# EAGLE library part 6SLX75CSG484 (library project)
Xilinx FPGA: 6SLX75CSG484
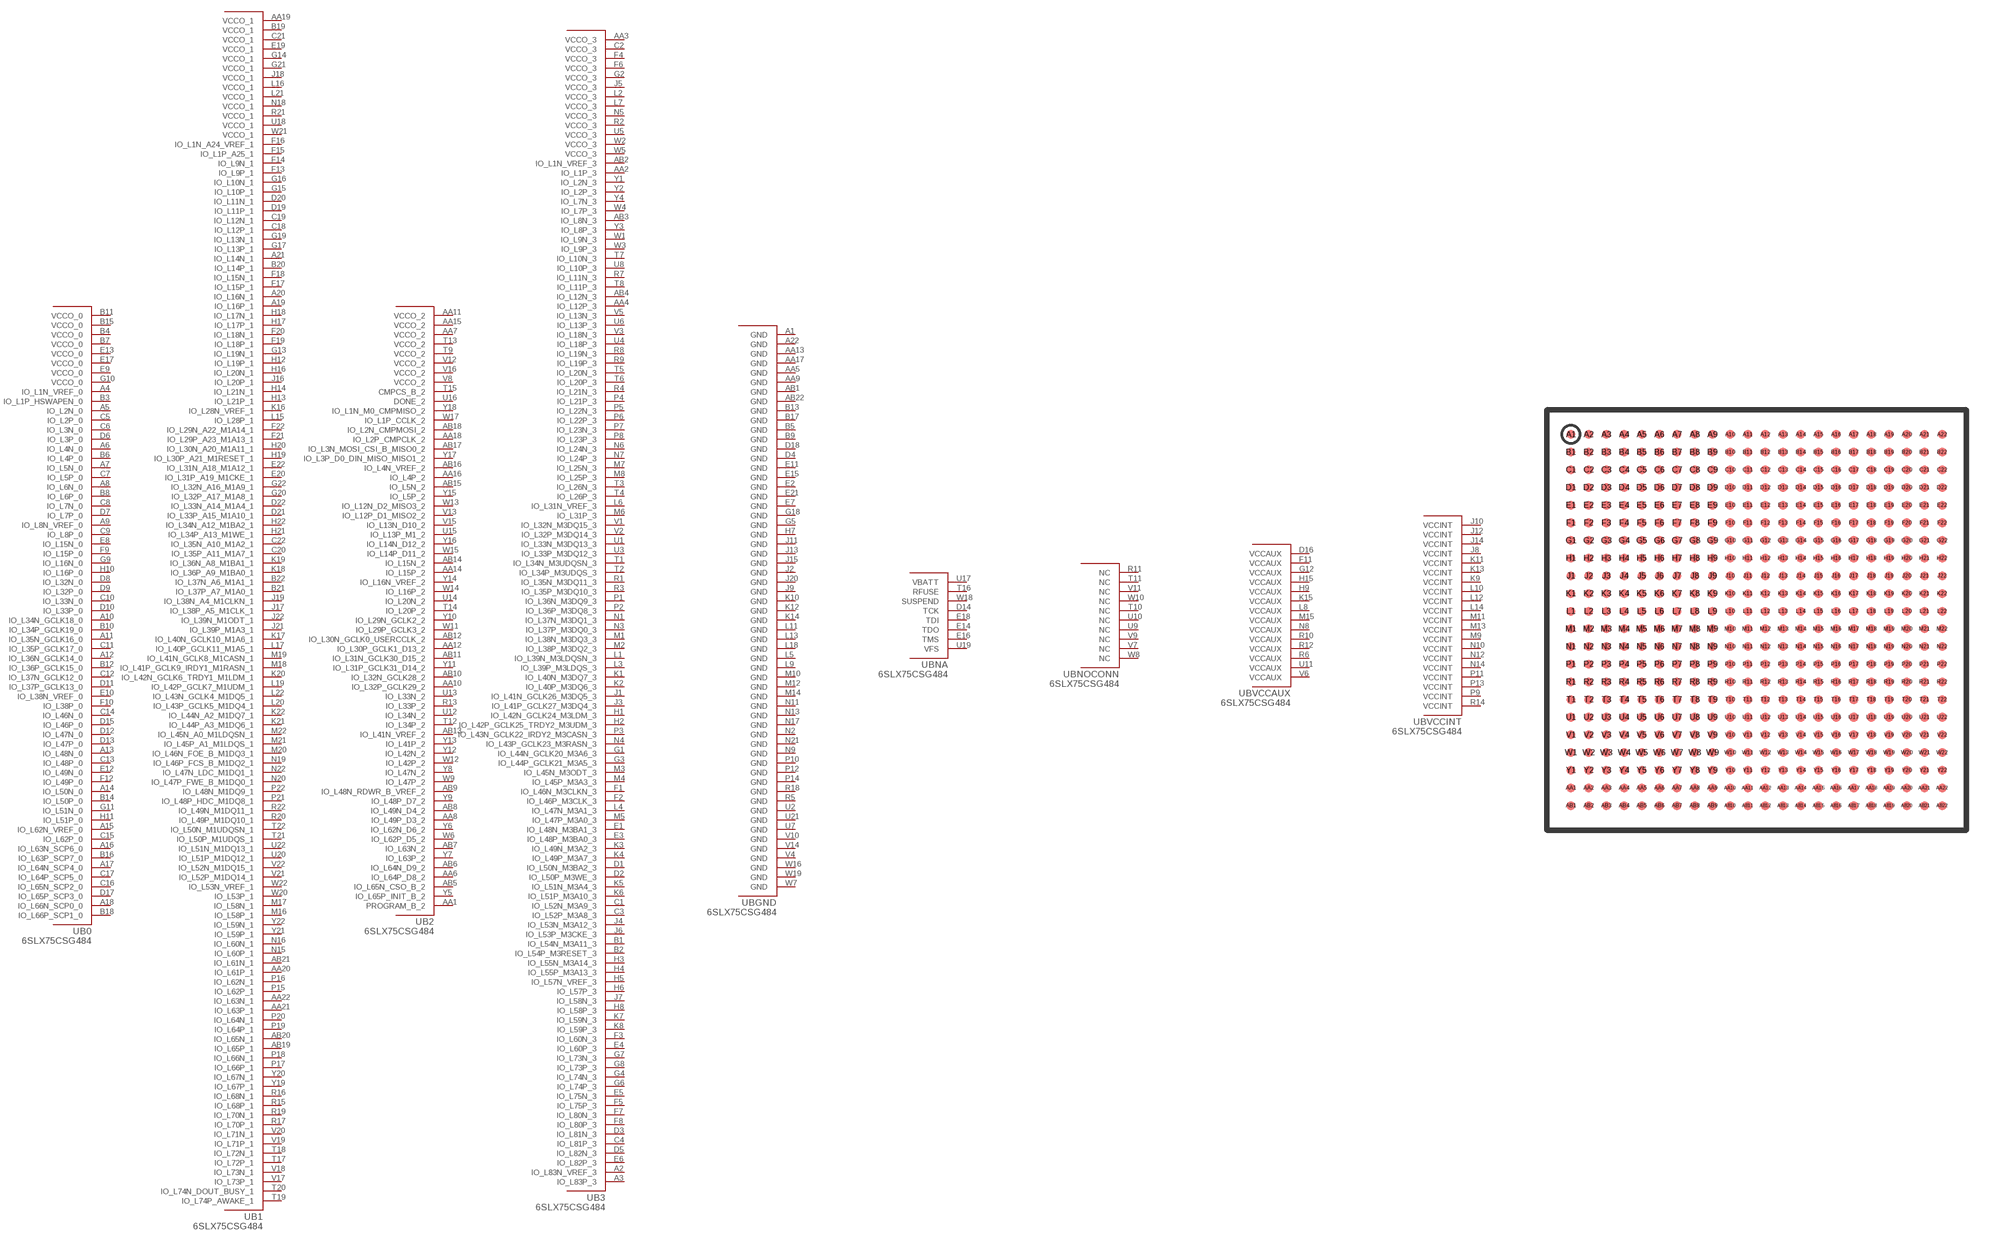
[diagram p7: symbol with the pads of CS484; footprint CS484]

Designator prefix U; gates B0=6SLX75CSG484_0 B1=6SLX75CSG484_1 B2=6SLX75CSG484_2 B3=6SLX75CSG484_3 BGND=6SLX75CSG484_GND BNA=6SLX75CSG484_NA BNOCONN=6SLX75CSG484_NOCONN BVCCAUX=6SLX75CSG484_VCCAUX BVCCINT=6SLX75CSG484_VCCINT

## 6SLX75CSG484  [CS484]
A1  BGND:GND  pwr
A2  B3:IO_L83N_VREF_3
A3  B3:IO_L83P_3
A4  B0:IO_L1N_VREF_0
A5  B0:IO_L2N_0
A6  B0:IO_L4N_0
A7  B0:IO_L5N_0
A8  B0:IO_L6N_0
A9  B0:IO_L8N_VREF_0
A10  B0:IO_L34N_GCLK18_0
A11  B0:IO_L35N_GCLK16_0
A12  B0:IO_L36N_GCLK14_0
A13  B0:IO_L48N_0
A14  B0:IO_L50N_0
A15  B0:IO_L62N_VREF_0
A16  B0:IO_L63N_SCP6_0
A17  B0:IO_L64N_SCP4_0
A18  B0:IO_L66N_SCP0_0
A19  B1:IO_L16P_1
A20  B1:IO_L16N_1
A21  B1:IO_L14N_1
A22  BGND:GND  pwr
AA1  B2:PROGRAM_B_2  in
AA2  B3:IO_L1P_3
AA3  B3:VCCO_3  in
AA4  B3:IO_L12P_3
AA5  BGND:GND  pwr
AA6  B2:IO_L64P_D8_2
AA7  B2:VCCO_2  in
AA8  B2:IO_L49P_D3_2
AA9  BGND:GND  pwr
AA10  B2:IO_L32P_GCLK29_2
AA11  B2:VCCO_2  in
AA12  B2:IO_L30P_GCLK1_D13_2
AA13  BGND:GND  pwr
AA14  B2:IO_L15P_2
AA15  B2:VCCO_2  in
AA16  B2:IO_L4P_2
AA17  BGND:GND  pwr
AA18  B2:IO_L2P_CMPCLK_2
AA19  B1:VCCO_1  in
AA20  B1:IO_L61P_1
AA21  B1:IO_L63P_1
AA22  B1:IO_L63N_1
AB1  BGND:GND  pwr
AB2  B3:IO_L1N_VREF_3
AB3  B3:IO_L8N_3
AB4  B3:IO_L12N_3
AB5  B2:IO_L65N_CSO_B_2
AB6  B2:IO_L64N_D9_2
AB7  B2:IO_L63N_2
AB8  B2:IO_L49N_D4_2
AB9  B2:IO_L48N_RDWR_B_VREF_2
AB10  B2:IO_L32N_GCLK28_2
AB11  B2:IO_L31N_GCLK30_D15_2
AB12  B2:IO_L30N_GCLK0_USERCCLK_2
AB13  B2:IO_L41N_VREF_2
AB14  B2:IO_L15N_2
AB15  B2:IO_L5N_2
AB16  B2:IO_L4N_VREF_2
AB17  B2:IO_L3N_MOSI_CSI_B_MISO0_2
AB18  B2:IO_L2N_CMPMOSI_2
AB19  B1:IO_L65P_1
AB20  B1:IO_L65N_1
AB21  B1:IO_L61N_1
AB22  BGND:GND  pwr
B1  B3:IO_L54N_M3A11_3
B2  B3:IO_L54P_M3RESET_3
B3  B0:IO_L1P_HSWAPEN_0
B4  B0:VCCO_0  in
B5  BGND:GND  pwr
B6  B0:IO_L4P_0
B7  B0:VCCO_0  in
B8  B0:IO_L6P_0
B9  BGND:GND  pwr
B10  B0:IO_L34P_GCLK19_0
B11  B0:VCCO_0  in
B12  B0:IO_L36P_GCLK15_0
B13  BGND:GND  pwr
B14  B0:IO_L50P_0
B15  B0:VCCO_0  in
B16  B0:IO_L63P_SCP7_0
B17  BGND:GND  pwr
B18  B0:IO_L66P_SCP1_0
B19  B1:VCCO_1  in
B20  B1:IO_L14P_1
B21  B1:IO_L37P_A7_M1A0_1
B22  B1:IO_L37N_A6_M1A1_1
C1  B3:IO_L52N_M3A9_3
C2  B3:VCCO_3  in
C3  B3:IO_L52P_M3A8_3
C4  B3:IO_L81P_3
C5  B0:IO_L2P_0
C6  B0:IO_L3N_0
C7  B0:IO_L5P_0
C8  B0:IO_L7N_0
C9  B0:IO_L8P_0
C10  B0:IO_L33N_0
C11  B0:IO_L35P_GCLK17_0
C12  B0:IO_L37N_GCLK12_0
C13  B0:IO_L48P_0
C14  B0:IO_L46N_0
C15  B0:IO_L62P_0
C16  B0:IO_L65N_SCP2_0
C17  B0:IO_L64P_SCP5_0
C18  B1:IO_L12P_1
C19  B1:IO_L12N_1
C20  B1:IO_L35P_A11_M1A7_1
C21  B1:VCCO_1  in
C22  B1:IO_L35N_A10_M1A2_1
D1  B3:IO_L50N_M3BA2_3
D2  B3:IO_L50P_M3WE_3
D3  B3:IO_L81N_3
D4  BGND:GND  pwr
D5  B3:IO_L82N_3
D6  B0:IO_L3P_0
D7  B0:IO_L7P_0
D8  B0:IO_L32N_0
D9  B0:IO_L32P_0
D10  B0:IO_L33P_0
D11  B0:IO_L37P_GCLK13_0
D12  B0:IO_L47N_0
D13  B0:IO_L47P_0
D14  BNA:TCK  in
D15  B0:IO_L46P_0
D16  BVCCAUX:VCCAUX  in
D17  B0:IO_L65P_SCP3_0
D18  BGND:GND  pwr
D19  B1:IO_L11P_1
D20  B1:IO_L11N_1
D21  B1:IO_L33P_A15_M1A10_1
D22  B1:IO_L33N_A14_M1A4_1
E1  B3:IO_L48N_M3BA1_3
E2  BGND:GND  pwr
E3  B3:IO_L48P_M3BA0_3
E4  B3:IO_L60P_3
E5  B3:IO_L75N_3
E6  B3:IO_L82P_3
E7  BGND:GND  pwr
E8  B0:IO_L15N_0
E9  B0:VCCO_0  in
E10  B0:IO_L38N_VREF_0
E11  BGND:GND  pwr
E12  B0:IO_L49N_0
E13  B0:VCCO_0  in
E14  BNA:TDO  out
E15  BGND:GND  pwr
E16  BNA:TMS  in
E17  B0:VCCO_0  in
E18  BNA:TDI  in
E19  B1:VCCO_1  in
E20  B1:IO_L31P_A19_M1CKE_1
E21  BGND:GND  pwr
E22  B1:IO_L31N_A18_M1A12_1
F1  B3:IO_L46N_M3CLKN_3
F2  B3:IO_L46P_M3CLK_3
F3  B3:IO_L60N_3
F4  B3:VCCO_3  in
F5  B3:IO_L75P_3
F6  B3:VCCO_3  in
F7  B3:IO_L80N_3
F8  B3:IO_L80P_3
F9  B0:IO_L15P_0
F10  B0:IO_L38P_0
F11  BVCCAUX:VCCAUX  in
F12  B0:IO_L49P_0
F13  B1:IO_L9P_1
F14  B1:IO_L9N_1
F15  B1:IO_L1P_A25_1
F16  B1:IO_L1N_A24_VREF_1
F17  B1:IO_L15P_1
F18  B1:IO_L15N_1
F19  B1:IO_L18P_1
F20  B1:IO_L18N_1
F21  B1:IO_L29P_A23_M1A13_1
F22  B1:IO_L29N_A22_M1A14_1
G1  B3:IO_L44N_GCLK20_M3A6_3
G2  B3:VCCO_3  in
G3  B3:IO_L44P_GCLK21_M3A5_3
G4  B3:IO_L74N_3
G5  BGND:GND  pwr
G6  B3:IO_L74P_3
G7  B3:IO_L73N_3
G8  B3:IO_L73P_3
G9  B0:IO_L16N_0
G10  B0:VCCO_0  in
G11  B0:IO_L51N_0
G12  BVCCAUX:VCCAUX  in
G13  B1:IO_L19N_1
G14  B1:VCCO_1  in
G15  B1:IO_L10P_1
G16  B1:IO_L10N_1
G17  B1:IO_L13P_1
G18  BGND:GND  pwr
G19  B1:IO_L13N_1
G20  B1:IO_L32P_A17_M1A8_1
G21  B1:VCCO_1  in
G22  B1:IO_L32N_A16_M1A9_1
H1  B3:IO_L42N_GCLK24_M3LDM_3
H2  B3:IO_L42P_GCLK25_TRDY2_M3UDM_3
H3  B3:IO_L55N_M3A14_3
H4  B3:IO_L55P_M3A13_3
H5  B3:IO_L57N_VREF_3
H6  B3:IO_L57P_3
H7  BGND:GND  pwr
H8  B3:IO_L58P_3
H9  BVCCAUX:VCCAUX  in
H10  B0:IO_L16P_0
H11  B0:IO_L51P_0
H12  B1:IO_L19P_1
H13  B1:IO_L21P_1
H14  B1:IO_L21N_1
H15  BVCCAUX:VCCAUX  in
H16  B1:IO_L20N_1
H17  B1:IO_L17P_1
H18  B1:IO_L17N_1
H19  B1:IO_L30P_A21_M1RESET_1
H20  B1:IO_L30N_A20_M1A11_1
H21  B1:IO_L34P_A13_M1WE_1
H22  B1:IO_L34N_A12_M1BA2_1
J1  B3:IO_L41N_GCLK26_M3DQ5_3
J2  BGND:GND  pwr
J3  B3:IO_L41P_GCLK27_M3DQ4_3
J4  B3:IO_L53N_M3A12_3
J5  B3:VCCO_3  in
J6  B3:IO_L53P_M3CKE_3
J7  B3:IO_L58N_3
J8  BVCCINT:VCCINT  in
J9  BGND:GND  pwr
J10  BVCCINT:VCCINT  in
J11  BGND:GND  pwr
J12  BVCCINT:VCCINT  in
J13  BGND:GND  pwr
J14  BVCCINT:VCCINT  in
J15  BGND:GND  pwr
J16  B1:IO_L20P_1
J17  B1:IO_L38P_A5_M1CLK_1
J18  B1:VCCO_1  in
J19  B1:IO_L38N_A4_M1CLKN_1
J20  BGND:GND  pwr
J21  B1:IO_L39P_M1A3_1
J22  B1:IO_L39N_M1ODT_1
K1  B3:IO_L40N_M3DQ7_3
K2  B3:IO_L40P_M3DQ6_3
K3  B3:IO_L49N_M3A2_3
K4  B3:IO_L49P_M3A7_3
K5  B3:IO_L51N_M3A4_3
K6  B3:IO_L51P_M3A10_3
K7  B3:IO_L59N_3
K8  B3:IO_L59P_3
K9  BVCCINT:VCCINT  in
K10  BGND:GND  pwr
K11  BVCCINT:VCCINT  in
K12  BGND:GND  pwr
K13  BVCCINT:VCCINT  in
K14  BGND:GND  pwr
K15  BVCCAUX:VCCAUX  in
K16  B1:IO_L28N_VREF_1
K17  B1:IO_L40N_GCLK10_M1A6_1
K18  B1:IO_L36P_A9_M1BA0_1
K19  B1:IO_L36N_A8_M1BA1_1
K20  B1:IO_L42N_GCLK6_TRDY1_M1LDM_1
K21  B1:IO_L44P_A3_M1DQ6_1
K22  B1:IO_L44N_A2_M1DQ7_1
L1  B3:IO_L39N_M3LDQSN_3
L2  B3:VCCO_3  in
L3  B3:IO_L39P_M3LDQS_3
L4  B3:IO_L47N_M3A1_3
L5  BGND:GND  pwr
L6  B3:IO_L31N_VREF_3
L7  B3:VCCO_3  in
L8  BVCCAUX:VCCAUX  in
L9  BGND:GND  pwr
L10  BVCCINT:VCCINT  in
L11  BGND:GND  pwr
L12  BVCCINT:VCCINT  in
L13  BGND:GND  pwr
L14  BVCCINT:VCCINT  in
L15  B1:IO_L28P_1
L16  B1:VCCO_1  in
L17  B1:IO_L40P_GCLK11_M1A5_1
L18  BGND:GND  pwr
L19  B1:IO_L42P_GCLK7_M1UDM_1
L20  B1:IO_L43P_GCLK5_M1DQ4_1
L21  B1:VCCO_1  in
L22  B1:IO_L43N_GCLK4_M1DQ5_1
M1  B3:IO_L38N_M3DQ3_3
M2  B3:IO_L38P_M3DQ2_3
M3  B3:IO_L45N_M3ODT_3
M4  B3:IO_L45P_M3A3_3
M5  B3:IO_L47P_M3A0_3
M6  B3:IO_L31P_3
M7  B3:IO_L25N_3
M8  B3:IO_L25P_3
M9  BVCCINT:VCCINT  in
M10  BGND:GND  pwr
M11  BVCCINT:VCCINT  in
M12  BGND:GND  pwr
M13  BVCCINT:VCCINT  in
M14  BGND:GND  pwr
M15  BVCCAUX:VCCAUX  in
M16  B1:IO_L58P_1
M17  B1:IO_L58N_1
M18  B1:IO_L41P_GCLK9_IRDY1_M1RASN_1
M19  B1:IO_L41N_GCLK8_M1CASN_1
M20  B1:IO_L46N_FOE_B_M1DQ3_1
M21  B1:IO_L45P_A1_M1LDQS_1
M22  B1:IO_L45N_A0_M1LDQSN_1
N1  B3:IO_L37N_M3DQ1_3
N2  BGND:GND  pwr
N3  B3:IO_L37P_M3DQ0_3
N4  B3:IO_L43P_GCLK23_M3RASN_3
N5  B3:VCCO_3  in
N6  B3:IO_L24N_3
N7  B3:IO_L24P_3
N8  BVCCAUX:VCCAUX  in
N9  BGND:GND  pwr
N10  BVCCINT:VCCINT  in
N11  BGND:GND  pwr
N12  BVCCINT:VCCINT  in
N13  BGND:GND  pwr
N14  BVCCINT:VCCINT  in
N15  B1:IO_L60P_1
N16  B1:IO_L60N_1
N17  BGND:GND  pwr
N18  B1:VCCO_1  in
N19  B1:IO_L46P_FCS_B_M1DQ2_1
N20  B1:IO_L47P_FWE_B_M1DQ0_1
N21  BGND:GND  pwr
N22  B1:IO_L47N_LDC_M1DQ1_1
P1  B3:IO_L36N_M3DQ9_3
P2  B3:IO_L36P_M3DQ8_3
P3  B3:IO_L43N_GCLK22_IRDY2_M3CASN_3
P4  B3:IO_L21P_3
P5  B3:IO_L22N_3
P6  B3:IO_L22P_3
P7  B3:IO_L23N_3
P8  B3:IO_L23P_3
P9  BVCCINT:VCCINT  in
P10  BGND:GND  pwr
P11  BVCCINT:VCCINT  in
P12  BGND:GND  pwr
P13  BVCCINT:VCCINT  in
P14  BGND:GND  pwr
P15  B1:IO_L62P_1
P16  B1:IO_L62N_1
P17  B1:IO_L66P_1
P18  B1:IO_L66N_1
P19  B1:IO_L64P_1
P20  B1:IO_L64N_1
P21  B1:IO_L48P_HDC_M1DQ8_1
P22  B1:IO_L48N_M1DQ9_1
R1  B3:IO_L35N_M3DQ11_3
R2  B3:VCCO_3  in
R3  B3:IO_L35P_M3DQ10_3
R4  B3:IO_L21N_3
R5  BGND:GND  pwr
R6  BVCCAUX:VCCAUX  in
R7  B3:IO_L11N_3
R8  B3:IO_L19N_3
R9  B3:IO_L19P_3
R10  BVCCAUX:VCCAUX  in
R11  BNOCONN:NC  pas
R12  BVCCAUX:VCCAUX  in
R13  B2:IO_L33P_2
R14  BVCCINT:VCCINT  in
R15  B1:IO_L68P_1
R16  B1:IO_L68N_1
R17  B1:IO_L70P_1
R18  BGND:GND  pwr
R19  B1:IO_L70N_1
R20  B1:IO_L49P_M1DQ10_1
R21  B1:VCCO_1  in
R22  B1:IO_L49N_M1DQ11_1
T1  B3:IO_L34N_M3UDQSN_3
T2  B3:IO_L34P_M3UDQS_3
T3  B3:IO_L26N_3
T4  B3:IO_L26P_3
T5  B3:IO_L20N_3
T6  B3:IO_L20P_3
T7  B3:IO_L10N_3
T8  B3:IO_L11P_3
T9  B2:VCCO_2  in
T10  BNOCONN:NC  pas
T11  BNOCONN:NC  pas
T12  B2:IO_L34P_2
T13  B2:VCCO_2  in
T14  B2:IO_L20P_2
T15  B2:CMPCS_B_2
T16  BNA:RFUSE
T17  B1:IO_L72P_1
T18  B1:IO_L72N_1
T19  B1:IO_L74P_AWAKE_1
T20  B1:IO_L74N_DOUT_BUSY_1
T21  B1:IO_L50P_M1UDQS_1
T22  B1:IO_L50N_M1UDQSN_1
U1  B3:IO_L33N_M3DQ13_3
U2  BGND:GND  pwr
U3  B3:IO_L33P_M3DQ12_3
U4  B3:IO_L18P_3
U5  B3:VCCO_3  in
U6  B3:IO_L13P_3
U7  BGND:GND  pwr
U8  B3:IO_L10P_3
U9  BNOCONN:NC  pas
U10  BNOCONN:NC  pas
U11  BVCCAUX:VCCAUX  in
U12  B2:IO_L34N_2
U13  B2:IO_L33N_2
U14  B2:IO_L20N_2
U15  B2:IO_L13P_M1_2
U16  B2:DONE_2
U17  BNA:VBATT  in
U18  B1:VCCO_1  in
U19  BNA:VFS
U20  B1:IO_L51P_M1DQ12_1
U21  BGND:GND  pwr
U22  B1:IO_L51N_M1DQ13_1
V1  B3:IO_L32N_M3DQ15_3
V2  B3:IO_L32P_M3DQ14_3
V3  B3:IO_L18N_3
V4  BGND:GND  pwr
V5  B3:IO_L13N_3
V6  BVCCAUX:VCCAUX  in
V7  BNOCONN:NC  pas
V8  B2:VCCO_2  in
V9  BNOCONN:NC  pas
V10  BGND:GND  pwr
V11  BNOCONN:NC  pas
V12  B2:VCCO_2  in
V13  B2:IO_L12P_D1_MISO2_2
V14  BGND:GND  pwr
V15  B2:IO_L13N_D10_2
V16  B2:VCCO_2  in
V17  B1:IO_L73P_1
V18  B1:IO_L73N_1
V19  B1:IO_L71P_1
V20  B1:IO_L71N_1
V21  B1:IO_L52P_M1DQ14_1
V22  B1:IO_L52N_M1DQ15_1
W1  B3:IO_L9N_3
W2  B3:VCCO_3  in
W3  B3:IO_L9P_3
W4  B3:IO_L7P_3
W5  B3:VCCO_3  in
W6  B2:IO_L62P_D5_2
W7  BGND:GND  pwr
W8  BNOCONN:NC  pas
W9  B2:IO_L47P_2
W10  BNOCONN:NC  pas
W11  B2:IO_L29P_GCLK3_2
W12  B2:IO_L42P_2
W13  B2:IO_L12N_D2_MISO3_2
W14  B2:IO_L16P_2
W15  B2:IO_L14P_D11_2
W16  BGND:GND  pwr
W17  B2:IO_L1P_CCLK_2
W18  BNA:SUSPEND  in
W19  BGND:GND  pwr
W20  B1:IO_L53P_1
W21  B1:VCCO_1  in
W22  B1:IO_L53N_VREF_1
Y1  B3:IO_L2N_3
Y2  B3:IO_L2P_3
Y3  B3:IO_L8P_3
Y4  B3:IO_L7N_3
Y5  B2:IO_L65P_INIT_B_2
Y6  B2:IO_L62N_D6_2
Y7  B2:IO_L63P_2
Y8  B2:IO_L47N_2
Y9  B2:IO_L48P_D7_2
Y10  B2:IO_L29N_GCLK2_2
Y11  B2:IO_L31P_GCLK31_D14_2
Y12  B2:IO_L42N_2
Y13  B2:IO_L41P_2
Y14  B2:IO_L16N_VREF_2
Y15  B2:IO_L5P_2
Y16  B2:IO_L14N_D12_2
Y17  B2:IO_L3P_D0_DIN_MISO_MISO1_2
Y18  B2:IO_L1N_M0_CMPMISO_2
Y19  B1:IO_L67P_1
Y20  B1:IO_L67N_1
Y21  B1:IO_L59P_1
Y22  B1:IO_L59N_1

## Footprint CS484 (pad centres in mm)
CS484 CSG484
smd 0.4 x 0.4: A1 -8.4,8.4; A2 -7.6,8.4; A3 -6.8,8.4; A4 -6,8.4; A5 -5.2,8.4; A6 -4.4,8.4; A7 -3.6,8.4; A8 -2.8,8.4; A9 -2,8.4; A10 -1.2,8.4; A11 -0.4,8.4; A12 0.4,8.4; A13 1.2,8.4; A14 2,8.4; A15 2.8,8.4; A16 3.6,8.4; A17 4.4,8.4; A18 5.2,8.4; A19 6,8.4; A20 6.8,8.4; A21 7.6,8.4; A22 8.4,8.4; AA1 -8.4,-7.6; AA2 -7.6,-7.6; AA3 -6.8,-7.6; AA4 -6,-7.6; AA5 -5.2,-7.6; AA6 -4.4,-7.6; AA7 -3.6,-7.6; AA8 -2.8,-7.6; AA9 -2,-7.6; AA10 -1.2,-7.6; AA11 -0.4,-7.6; AA12 0.4,-7.6; AA13 1.2,-7.6; AA14 2,-7.6; AA15 2.8,-7.6; AA16 3.6,-7.6; AA17 4.4,-7.6; AA18 5.2,-7.6; AA19 6,-7.6; AA20 6.8,-7.6; AA21 7.6,-7.6; AA22 8.4,-7.6; AB1 -8.4,-8.4; AB2 -7.6,-8.4; AB3 -6.8,-8.4; AB4 -6,-8.4; AB5 -5.2,-8.4; AB6 -4.4,-8.4; AB7 -3.6,-8.4; AB8 -2.8,-8.4; AB9 -2,-8.4; AB10 -1.2,-8.4; AB11 -0.4,-8.4; AB12 0.4,-8.4; AB13 1.2,-8.4; AB14 2,-8.4; AB15 2.8,-8.4; AB16 3.6,-8.4; AB17 4.4,-8.4; AB18 5.2,-8.4; AB19 6,-8.4; AB20 6.8,-8.4; AB21 7.6,-8.4; AB22 8.4,-8.4; B1 -8.4,7.6; B2 -7.6,7.6; B3 -6.8,7.6; B4 -6,7.6; B5 -5.2,7.6; B6 -4.4,7.6; B7 -3.6,7.6; B8 -2.8,7.6; B9 -2,7.6; B10 -1.2,7.6; B11 -0.4,7.6; B12 0.4,7.6; B13 1.2,7.6; B14 2,7.6; B15 2.8,7.6; B16 3.6,7.6; B17 4.4,7.6; B18 5.2,7.6; B19 6,7.6; B20 6.8,7.6; B21 7.6,7.6; B22 8.4,7.6; C1 -8.4,6.8; C2 -7.6,6.8; C3 -6.8,6.8; C4 -6,6.8; C5 -5.2,6.8; C6 -4.4,6.8; C7 -3.6,6.8; C8 -2.8,6.8; C9 -2,6.8; C10 -1.2,6.8; C11 -0.4,6.8; C12 0.4,6.8; C13 1.2,6.8; C14 2,6.8; C15 2.8,6.8; C16 3.6,6.8; C17 4.4,6.8; C18 5.2,6.8; C19 6,6.8; C20 6.8,6.8; C21 7.6,6.8; C22 8.4,6.8; D1 -8.4,6; D2 -7.6,6; D3 -6.8,6; D4 -6,6; D5 -5.2,6; D6 -4.4,6; D7 -3.6,6; D8 -2.8,6; D9 -2,6; D10 -1.2,6; D11 -0.4,6; D12 0.4,6; D13 1.2,6; D14 2,6; D15 2.8,6; D16 3.6,6; D17 4.4,6; D18 5.2,6; D19 6,6; D20 6.8,6; D21 7.6,6; D22 8.4,6; E1 -8.4,5.2; E2 -7.6,5.2; E3 -6.8,5.2; E4 -6,5.2; E5 -5.2,5.2; E6 -4.4,5.2; E7 -3.6,5.2; E8 -2.8,5.2; E9 -2,5.2; E10 -1.2,5.2; E11 -0.4,5.2; E12 0.4,5.2; E13 1.2,5.2; E14 2,5.2; E15 2.8,5.2; E16 3.6,5.2; E17 4.4,5.2; E18 5.2,5.2; E19 6,5.2; E20 6.8,5.2; E21 7.6,5.2; E22 8.4,5.2; F1 -8.4,4.4; F2 -7.6,4.4; F3 -6.8,4.4; F4 -6,4.4; F5 -5.2,4.4; F6 -4.4,4.4; F7 -3.6,4.4; F8 -2.8,4.4; F9 -2,4.4; F10 -1.2,4.4; F11 -0.4,4.4; F12 0.4,4.4; F13 1.2,4.4; F14 2,4.4; F15 2.8,4.4; F16 3.6,4.4; F17 4.4,4.4; F18 5.2,4.4; F19 6,4.4; F20 6.8,4.4; F21 7.6,4.4; F22 8.4,4.4; G1 -8.4,3.6; G2 -7.6,3.6; G3 -6.8,3.6; G4 -6,3.6; G5 -5.2,3.6; G6 -4.4,3.6; G7 -3.6,3.6; G8 -2.8,3.6; G9 -2,3.6; G10 -1.2,3.6; G11 -0.4,3.6; G12 0.4,3.6; G13 1.2,3.6; G14 2,3.6; G15 2.8,3.6; G16 3.6,3.6; G17 4.4,3.6; G18 5.2,3.6; G19 6,3.6; G20 6.8,3.6; G21 7.6,3.6; G22 8.4,3.6; H1 -8.4,2.8; H2 -7.6,2.8; H3 -6.8,2.8; H4 -6,2.8; H5 -5.2,2.8; H6 -4.4,2.8; H7 -3.6,2.8; H8 -2.8,2.8; H9 -2,2.8; H10 -1.2,2.8; H11 -0.4,2.8; H12 0.4,2.8; H13 1.2,2.8; H14 2,2.8; H15 2.8,2.8; H16 3.6,2.8; H17 4.4,2.8; H18 5.2,2.8; H19 6,2.8; H20 6.8,2.8; H21 7.6,2.8; H22 8.4,2.8; J1 -8.4,2; J2 -7.6,2; J3 -6.8,2; J4 -6,2; J5 -5.2,2; J6 -4.4,2; J7 -3.6,2; J8 -2.8,2; J9 -2,2; J10 -1.2,2; J11 -0.4,2; J12 0.4,2; J13 1.2,2; J14 2,2; J15 2.8,2; J16 3.6,2; J17 4.4,2; J18 5.2,2; J19 6,2; J20 6.8,2; J21 7.6,2; J22 8.4,2; K1 -8.4,1.2; K2 -7.6,1.2; K3 -6.8,1.2; K4 -6,1.2; K5 -5.2,1.2; K6 -4.4,1.2; K7 -3.6,1.2; K8 -2.8,1.2; K9 -2,1.2; K10 -1.2,1.2; K11 -0.4,1.2; K12 0.4,1.2; K13 1.2,1.2; K14 2,1.2; K15 2.8,1.2; K16 3.6,1.2; K17 4.4,1.2; K18 5.2,1.2; K19 6,1.2; K20 6.8,1.2; K21 7.6,1.2; K22 8.4,1.2; L1 -8.4,0.4; L2 -7.6,0.4; L3 -6.8,0.4; L4 -6,0.4; L5 -5.2,0.4; L6 -4.4,0.4; L7 -3.6,0.4; L8 -2.8,0.4; L9 -2,0.4; L10 -1.2,0.4; L11 -0.4,0.4; L12 0.4,0.4; L13 1.2,0.4; L14 2,0.4; L15 2.8,0.4; L16 3.6,0.4; L17 4.4,0.4; L18 5.2,0.4; L19 6,0.4; L20 6.8,0.4; L21 7.6,0.4; L22 8.4,0.4; M1 -8.4,-0.4; M2 -7.6,-0.4; M3 -6.8,-0.4; M4 -6,-0.4; M5 -5.2,-0.4; M6 -4.4,-0.4; M7 -3.6,-0.4; M8 -2.8,-0.4; M9 -2,-0.4; M10 -1.2,-0.4; M11 -0.4,-0.4; M12 0.4,-0.4; M13 1.2,-0.4; M14 2,-0.4; M15 2.8,-0.4; M16 3.6,-0.4; M17 4.4,-0.4; M18 5.2,-0.4; M19 6,-0.4; M20 6.8,-0.4; M21 7.6,-0.4; M22 8.4,-0.4; N1 -8.4,-1.2; N2 -7.6,-1.2; N3 -6.8,-1.2; N4 -6,-1.2; N5 -5.2,-1.2; N6 -4.4,-1.2; N7 -3.6,-1.2; N8 -2.8,-1.2; N9 -2,-1.2; N10 -1.2,-1.2; N11 -0.4,-1.2; N12 0.4,-1.2; N13 1.2,-1.2; N14 2,-1.2; N15 2.8,-1.2; N16 3.6,-1.2; N17 4.4,-1.2; N18 5.2,-1.2; N19 6,-1.2; N20 6.8,-1.2; N21 7.6,-1.2; N22 8.4,-1.2; P1 -8.4,-2; P2 -7.6,-2; P3 -6.8,-2; P4 -6,-2; P5 -5.2,-2; P6 -4.4,-2; P7 -3.6,-2; P8 -2.8,-2; P9 -2,-2; P10 -1.2,-2; P11 -0.4,-2; P12 0.4,-2; P13 1.2,-2; P14 2,-2; P15 2.8,-2; P16 3.6,-2; P17 4.4,-2; P18 5.2,-2; P19 6,-2; P20 6.8,-2; P21 7.6,-2; P22 8.4,-2; R1 -8.4,-2.8; R2 -7.6,-2.8; R3 -6.8,-2.8; R4 -6,-2.8; R5 -5.2,-2.8; R6 -4.4,-2.8; R7 -3.6,-2.8; R8 -2.8,-2.8; R9 -2,-2.8; R10 -1.2,-2.8; R11 -0.4,-2.8; R12 0.4,-2.8; R13 1.2,-2.8; R14 2,-2.8; R15 2.8,-2.8; R16 3.6,-2.8; R17 4.4,-2.8; R18 5.2,-2.8; R19 6,-2.8; R20 6.8,-2.8; R21 7.6,-2.8; R22 8.4,-2.8; T1 -8.4,-3.6; T2 -7.6,-3.6; T3 -6.8,-3.6; T4 -6,-3.6; T5 -5.2,-3.6; T6 -4.4,-3.6; T7 -3.6,-3.6; T8 -2.8,-3.6; T9 -2,-3.6; T10 -1.2,-3.6; T11 -0.4,-3.6; T12 0.4,-3.6; T13 1.2,-3.6; T14 2,-3.6; T15 2.8,-3.6; T16 3.6,-3.6; T17 4.4,-3.6; T18 5.2,-3.6; T19 6,-3.6; T20 6.8,-3.6; T21 7.6,-3.6; T22 8.4,-3.6; U1 -8.4,-4.4; U2 -7.6,-4.4; U3 -6.8,-4.4; U4 -6,-4.4; U5 -5.2,-4.4; U6 -4.4,-4.4; U7 -3.6,-4.4; U8 -2.8,-4.4; U9 -2,-4.4; U10 -1.2,-4.4; U11 -0.4,-4.4; U12 0.4,-4.4; U13 1.2,-4.4; U14 2,-4.4; U15 2.8,-4.4; U16 3.6,-4.4; U17 4.4,-4.4; U18 5.2,-4.4; U19 6,-4.4; U20 6.8,-4.4; U21 7.6,-4.4; U22 8.4,-4.4; V1 -8.4,-5.2; V2 -7.6,-5.2; V3 -6.8,-5.2; V4 -6,-5.2; V5 -5.2,-5.2; V6 -4.4,-5.2; V7 -3.6,-5.2; V8 -2.8,-5.2; V9 -2,-5.2; V10 -1.2,-5.2; V11 -0.4,-5.2; V12 0.4,-5.2; V13 1.2,-5.2; V14 2,-5.2; V15 2.8,-5.2; V16 3.6,-5.2; V17 4.4,-5.2; V18 5.2,-5.2; V19 6,-5.2; V20 6.8,-5.2; V21 7.6,-5.2; V22 8.4,-5.2; W1 -8.4,-6; W2 -7.6,-6; W3 -6.8,-6; W4 -6,-6; W5 -5.2,-6; W6 -4.4,-6; W7 -3.6,-6; W8 -2.8,-6; W9 -2,-6; W10 -1.2,-6; W11 -0.4,-6; W12 0.4,-6; W13 1.2,-6; W14 2,-6; W15 2.8,-6; W16 3.6,-6; W17 4.4,-6; W18 5.2,-6; W19 6,-6; W20 6.8,-6; W21 7.6,-6; W22 8.4,-6; Y1 -8.4,-6.8; Y2 -7.6,-6.8; Y3 -6.8,-6.8; Y4 -6,-6.8; Y5 -5.2,-6.8; Y6 -4.4,-6.8; Y7 -3.6,-6.8; Y8 -2.8,-6.8; Y9 -2,-6.8; Y10 -1.2,-6.8; Y11 -0.4,-6.8; Y12 0.4,-6.8; Y13 1.2,-6.8; Y14 2,-6.8; Y15 2.8,-6.8; Y16 3.6,-6.8; Y17 4.4,-6.8; Y18 5.2,-6.8; Y19 6,-6.8; Y20 6.8,-6.8; Y21 7.6,-6.8; Y22 8.4,-6.8